# Altium schematic symbol library modulo_alimentador_schlib.SchLib: 12 symbols
Pins are listed as number, name and electrical type; pins without a type are passive.

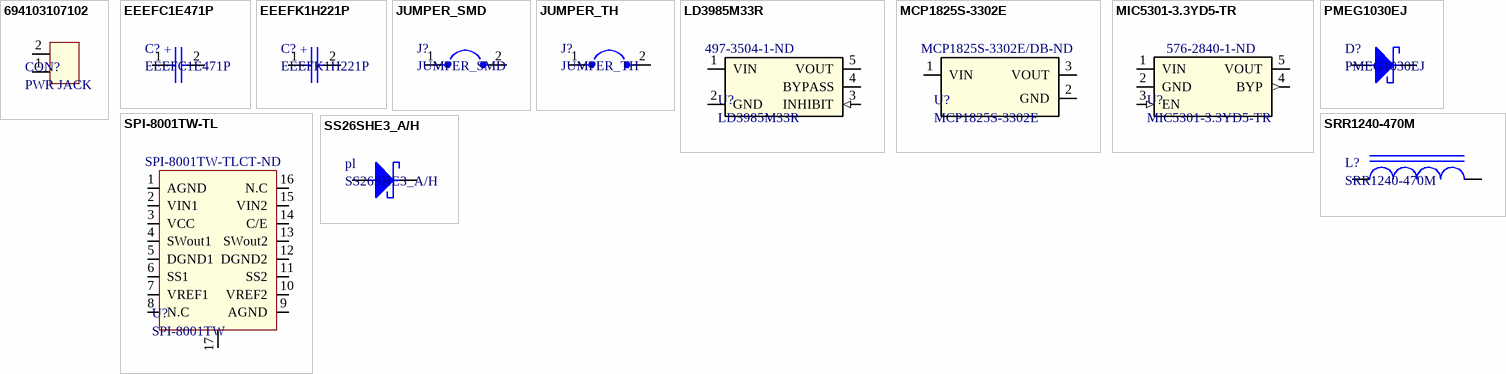
[diagram p0: symbols 694103107102 to SS26SHE3_A/H]

## 694103107102
designator CON?, comment PWR JACK
CONN PWR JACK DC RA SMD; Manufacturer: Wurth Electronics; Manufacturer Part Number: 694103107102; Connector Type: Jack,Power; Insulation Resistance: 100MR; Voltage Rating (DC): 18V; Gender: Male; Shielding: Unshielded; Current Rating: 5A; Supplier 1: Digi-Key; RoHS: Yes; Category: Connectors; Stock 1: 467; Pricing 1: 1=1,56000, 10=1,48500, 50=1,32600, 100=1,22000 (USD); Mount: Surface Mount; Color: Black; Contact Material: Copper Alloy; Contact Plating: Tin; Housing Material: Polyamide; Min Operating Temperature: -40°C; Max Operating Temperature: 85°C; Contact Gender: Female; Package Quantity: 500; Packaging: Tape and Reel; Termination: SMD/SMT; Voltage Rating: 18V; Flammability Rating: UL94 V-0; REACH SVHC: Unknown; ComponentLink1URL: http://www.mouser.com/ds/2/445/6941xx107102-469263.pdf?src-supplier=Mouser; ComponentLink1Description: http://www.mouser.com/ds/2/445/6941xx107102-469263.pdf?src-supplier=Mouser; ComponentLink2URL: http://www.farnell.com/cad/2130962.pdf?src-supplier=Element14; ComponentLink2Description: http://www.farnell.com/cad/2130962.pdf?src-supplier=Element14
footprint 694103107102
pins: 1 (power), 2 (power)

## EEEFC1E471P
designator C?
Capacitor 470uf electrolitico; Manufacturer: Panasonic; ESR (Equivalent Series Resistance): 150mR; Lead Diameter: 0.9mm; Leakage Current: 3uA; Life (Hours): 1000Hour; Material: Aluminium; Ripple Current: 670mA; Tolerance: 20%; Voltage: 25V; Capacitance: 470uF; Case/Package: Radial; Category: Aluminum Electrolytic Capacitors; Contact Plating: Tin; Diameter: 10mm; Height: 10.2mm; Height - Seated (Max): 0.402inch; Impedance: 150mR; Lead Free: Lead Free; Lead Pitch: 4.6mm; Length: 10.5mm; Manufacturer Part Number: EEEFC1E471P; Max Operating Temperature: 105°C; Min Operating Temperature: -40°C; Mount: Surface Mount,PCB; Package Quantity: 1; Packaging: Tape and Reel; Radiation Hardening: No; REACH SVHC: No SVHC; Ripple Current (AC): 670mA; Termination: SMD/SMT; Voltage Rating: 25V; Voltage Rating (DC): 25V; Width: 900um
footprint PCE4009CT
pins: 1, 2
text: +

## EEEFK1H221P
designator C?
Capacitor 220uf electrolitico; Manufacturer: Panasonic; Manufacturer Part Number: EEE-FK1H221P; Dielectric Material: Aluminium; ESR (Equivalent Series Resistance): 180mR; Leakage Current: 3uA; Life (Hours): 2000Hour; Polarity: Polar; Ripple Current: 670mA; Tolerance: 20%; Voltage: 50V; Width: 12mm; Capacitance: 220uF; Case/Package: Radial; Category: Aluminum Electrolytic Capacitors; Contact Plating: Tin; Diameter: 10mm; Height: 10.2mm; Height - Seated (Max): 0.413inch; Impedance: 180mR; Lead Free: Lead Free; Length: 10.2mm; Material: Aluminium; Max Operating Temperature: 105°C; Min Operating Temperature: -55°C; Mount: Surface Mount,PCB; Number of Pins: 2; Package Quantity: 500; Packaging: Tape and Reel; Radiation Hardening: No; REACH SVHC: No SVHC; Ripple Current (AC): 670mA; Termination: SMD/SMT; Voltage Rating: 50V; Voltage Rating (DC): 50V
footprint PCE4009CT
pins: 1, 2
text: +

## JUMPER_SMD
designator J?
JUMPER SMD Pitch  2.54mm; Manufacturer: Samtec; Manufacturer Part Number: TSM-102-01-L-SV-TR; Connector Type: Male Pin; Gender: Male; Max Current Rating: 7A; Max Voltage Rating (AC): 475V; Number of Contacts: 2; Category: Headers and Wire Housings; Color: Black; Contact Material: Bronze; Contact Mating Length: 0.23inch; Contact Plating: Gold; Depth: 2.54mm; Housing Color: Black; Housing Material: Polymer; Lead Free: Lead Free; Length: 5.08mm; Max Operating Temperature: 125°C; Min Operating Temperature: -55°C; Mount: Surface Mount; Number of Positions: 2; Number of Rows: 1; Orientation: Straight; Packaging: Tape and Reel; Pitch: 2.54mm; Radiation Hardening: No; REACH SVHC: No SVHC; Termination: Solder
footprint JUMPER_SMD
pins: 1, 2

## JUMPER_TH
designator J?
JUMPER Through Hole Pitch  2.54mm
footprint JUMPER_TH
pins: 1, 2

## LD3985M33R
designator U?  Supplier Part Number 1: 497-3504-1-ND
LDO Regulator Pos 3.3V 0.55A 5-Pin SOT-23 T/R; Vendor: STMicroelectronics; Built_By: EMA_UL_Team; Accuracy: 2%; Dropout Voltage: 60mV; Input Bias Current: 85uA; Max Input Voltage: 6V; Max Output Current: 150mA; Min Current Limit: 300mA; Min Input Voltage: 2.5V; Number of Outputs: 1; Output Type: Fixed; Polarity: Positive; Quiescent Current: 150uA; Manufacturer_Part_Number: LD3985M33R; Copyright: Copyright (C) 2018 Accelerated Designs. All rights reserved; RefDes: RefDes; Type: DEV; Value: Value; Width: 1.75mm; Case/Package: SOT-23; Category: Voltage Regulators - Linear; Height: 1.3mm; Lead Free: Lead Free; Length: 3mm; Manufacturer: STMicroelectronics; Manufacturer Part Number: LD3985M33R; Max Operating Temperature: 125°C; Min Operating Temperature: -40°C; Min Output Voltage: 3.3V; Mount: Surface Mount; Number of Pins: 5; Number of Regulators: 1; Output Current: 150mA; Output Voltage: 3.3V; Output Voltage Accuracy: 2%; Package Quantity: 1; Packaging: Tape and Reel; Radiation Hardening: No; Supplier 1: Digi-Key; RoHS: Yes; Stock 1: 4469; Pricing 1: 1=0,60000, 10=0,52800, 25=0,49600, 100=0,37600, 250=0,32000, 500=0,30400, 1000=0,23200 (USD); ComponentLink1URL: https://datasheet.ciiva.com/41440/001185181-da-01-en-ic-reg-ldo-3-3v-ld3985m33r-sot-23-5-stm-41440289.pdf?src-supplier=Conrad; ComponentLink1Description: https://datasheet.ciiva.com/41440/001185181-da-01-en-ic-reg-ldo-3-3v-ld3985m33r-sot-23-5-stm-41440289.pdf?src-supplier=Conrad; ComponentLink2URL: https://datasheet.ciiva.com/26905/ld3985m33r-26905032.pdf?src-supplier=IIIC; ComponentLink2Description: https://datasheet.ciiva.com/26905/ld3985m33r-26905032.pdf?src-supplier=IIIC; ComponentLink3URL: https://datasheet.ciiva.com/2042/cd00003395-2042198.pdf?src-supplier=Digi-Key; ComponentLink3Description: https://datasheet.ciiva.com/2042/cd00003395-2042198.pdf?src-supplier=Digi-Key; ComponentLink4URL: https://datasheet.ciiva.com/2042/cd00003395-2042200.pdf?src-supplier=Digi-Key; ComponentLink4Description: https://datasheet.ciiva.com/2042/cd00003395-2042200.pdf?src-supplier=Digi-Key; ComponentLink5URL: https://datasheet.ciiva.com/2042/cd00003395-2042199.pdf?src-supplier=Digi-Key; ComponentLink5Description: https://datasheet.ciiva.com/2042/cd00003395-2042199.pdf?src-supplier=Digi-Key; ComponentLink6URL: https://datasheet.ciiva.com/16591/cd00003395-16591967.pdf?src-supplier=Avnet+Europe; ComponentLink6Description: https://datasheet.ciiva.com/16591/cd00003395-16591967.pdf?src-supplier=Avnet+Europe
footprint LD3985M33R
pins: 1 VIN (power), 2 GND (power), 3 INHIBIT (in), 4 BYPASS, 5 VOUT (power)

## MCP1825S-3302E
designator U?  Supplier Part Number 1: MCP1825S-3302E/DB-ND
MCP1825 Series 500 mA Low Quiescent Current LDO Regulator - SOT-223-3; Manufacturer: Microchip; Manufacturer Part Number: MCP1825S-3302E/DB; Category: Voltage Regulators - Linear; Supplier 1: Digi-Key; RoHS: Yes; Stock 1: 2086; Pricing 1: 1=0,51000, 25=0,43000, 100=0,39000 (USD); ComponentLink1URL: https://datasheet.ciiva.com/2040/22056b-2040962.pdf?src-supplier=Digi-Key; ComponentLink1Description: https://datasheet.ciiva.com/2040/22056b-2040962.pdf?src-supplier=Digi-Key; ComponentLink2URL: https://datasheet.ciiva.com/16369/filehandler-aspxddocname-en531698-16369574.pdf?src-supplier=Future+Electronics; ComponentLink2Description: https://datasheet.ciiva.com/16369/filehandler-aspxddocname-en531698-16369574.pdf?src-supplier=Future+Electronics; ComponentLink3URL: https://datasheet.ciiva.com/3224/22056b-3224139.pdf?src-supplier=Avnet; ComponentLink3Description: https://datasheet.ciiva.com/3224/22056b-3224139.pdf?src-supplier=Avnet; ComponentLink4URL: https://datasheet.ciiva.com/8041/514217-8041499.pdf?src-supplier=Element14; ComponentLink4Description: https://datasheet.ciiva.com/8041/514217-8041499.pdf?src-supplier=Element14
footprint MCP1825S-3302E
pins: 1 VIN (power), 2 GND (power), 3 VOUT (power)

## MIC5301-3.3YD5-TR
designator U?  Supplier Part Number 1: 576-2840-1-ND
LDO VOLT REG, 0.15A, 3.3V, TSOT-23-5; Input Voltage Min:2.3V; Input Voltage Max:5.5V; Output Voltage Nom.:3.3V; Output Current:150mA; Dropout Voltage Vdo:40mV; LDO Regulator Case Style:TSOT-23; No. of Pins:5; Operating Temperature Min:-40°C; Operating Temperature Max:125°C; Packaging:Cut Tape; MSL:MSL 1 - Unlimited; SVHC:No SVHC (15-Jun-2015); Manufacturer: Microchip; Category: Voltage Regulators - Linear; Manufacturer Part Number: MIC5301-3.3YD5-TR; Supplier 1: Digi-Key; RoHS: Yes; Stock 1: 2373; Pricing 1: 1=0,59000, 25=0,49000, 100=0,45000 (USD); ComponentLink1URL: https://datasheet.ciiva.com/2049/mic5301-2049830.pdf?src-supplier=Digi-Key; ComponentLink1Description: https://datasheet.ciiva.com/2049/mic5301-2049830.pdf?src-supplier=Digi-Key; ComponentLink2URL: https://datasheet.ciiva.com/46425/1670788-46425623.pdf?src-supplier=Element14; ComponentLink2Description: https://datasheet.ciiva.com/46425/1670788-46425623.pdf?src-supplier=Element14
footprint MIC5301-3.3YD5-TR
pins: 1 VIN (power), 2 GND (power), 3 EN (in), 4 BYP (out), 5 VOUT (power)

## PMEG1030EJ
designator D?
DIODO SCHOTTKY; Manufacturer: Nexperia; Manufacturer Part Number: PMEG1030EJ,115
footprint PMEG1030EJ
pins: 1 A, 2 K

## SPI-8001TW-TL
designator U?, comment SPI-8001TW  Supplier Part Number 1: SPI-8001TW-TLCT-ND
IC REG BUCK ADJ 1.5A DL 16-HSOP; Manufacturer: Allegro MicroSystems Sanken; Manufacturer Part Number: SPI-8001TW-TL; Max Input Voltage: 20V; Max Output Voltage: 16V; Min Input Voltage: 4V; Min Output Voltage: 1V; Number of Outputs: 2; Output Configuration: Positive; Output Type: Adjustable; Switching Frequency: 250kHz; Synchronous Rectifier: No; Case/Package: SOIC; Category: Voltage Regulators - Switching; Max Operating Temperature: 135°C; Min Operating Temperature: -30°C; Mount: Surface Mount; Number of Pins: 16; Output Current: 1.5A; Package Quantity: 1400; Packaging: Tape and Reel; Supplier 1: Digi-Key; RoHS: Yes; Stock 1: 1392; Pricing 1: 1=3,10000, 10=2,78500, 25=2,63240, 100=2,16450, 250=1,94220, 500=1,87200 (USD); ComponentLink1URL: https://datasheet.ciiva.com/29734/spi-8001tw-ds-en-29734001.pdf?src-supplier=Digi-Key; ComponentLink1Description: https://datasheet.ciiva.com/29734/spi-8001tw-ds-en-29734001.pdf?src-supplier=Digi-Key; ComponentLink2URL: https://datasheet.ciiva.com/29733/h1-o03eh0-29733998.pdf?src-supplier=Digi-Key; ComponentLink2Description: https://datasheet.ciiva.com/29733/h1-o03eh0-29733998.pdf?src-supplier=Digi-Key; ComponentLink3URL: https://datasheet.ciiva.com/29733/h1-o03eh0-29733994.pdf?src-supplier=Digi-Key; ComponentLink3Description: https://datasheet.ciiva.com/29733/h1-o03eh0-29733994.pdf?src-supplier=Digi-Key
footprint SOP127P1050X275_HS-17N (SOP, 16-Leads, Body 12,20x7,50mm, Pitch 1,27mm, Thermal Pad 11,00x4,50mm, IPC Medium Density)
pins: 1 AGND (power), 2 VIN1 (power), 3 VCC (power), 4 SWout1 (out), 5 DGND1 (power), 6 SS1 (in), 7 VREF1 (power), 8 N.C, 9 AGND (power), 10 VREF2 (power), 11 SS2 (in), 12 DGND2 (power), 13 SWout2 (out), 14 C/E (in), 15 VIN2 (power), 16 N.C, 17 Thermal (power)

## SRR1240-470M
designator L?
Inductor fijo con nucleo.; Manufacturer: Bourns; Core Material: Ferrite; Current Rating: 2A; DC Resistance (DCR): 135mR; Frequency: 13MHz; Inductance: 47uH; Inductance Tolerance: 20%; Material: Steel; Q Factor: 19; Saturation Current: 1.8A; Shielding: Shielded; Test Frequency: 100kHz; Width: 12.5mm; Case/Package: Nonstandard; Category: Fixed Inductors; Composition: Wirewound; DC Current: 2A; Depth: 12.8mm; Height: 4mm; Height - Seated (Max): 0.177inch; Length: 12.5mm; Manufacturer Part Number: SRR1240-470M; Max DC Current: 2A; Max Operating Temperature: 125°C; Military Standard: Not; Min Operating Temperature: -40°C; Mount: Surface Mount; Package Quantity: 800; Packaging: Cut Tape; Radiation Hardening: No; REACH SVHC: No SVHC; Resistance: 135MR; RMS Current (Irms): 2A; Self Resonant Frequency: 13MHz; Termination: SMD/SMT; Tolerance: 20%
footprint SRR1240-470M
pins: 1, 2

## SS26SHE3_A/H
designator pl
Diodo schottky 60V 2A; Manufacturer: Vishay; Manufacturer Part Number: SS26SHE3"A/H; Element Configuration: Single; Forward Voltage: 750mV; Max Forward Surge Current (Ifsm): 40A; Peak Reverse Current: 10mA; Average Rectified Current: 2A; Case/Package: SMA; Category: Rectifier Diodes; Forward Current: 2A; Height: 2.29mm; Lead Free: Lead Free; Length: 4.5mm; Max Operating Temperature: 150°C; Max Repetitive Reverse Voltage (Vrrm): 60V; Max Reverse Voltage (DC): 60V; Min Operating Temperature: -55°C; Mount: Surface Mount; Number of Pins: 2; Package Quantity: 1800; Packaging: Tape and Reel; Peak Non-Repetitive Surge Current: 40A; Radiation Hardening: No; Reverse Voltage (DC): 60V; Termination: SMD/SMT; Weight: 0.001199oz; Width: 2.79mm
footprint SS26SHE3_A/H
pins: 1 A, 2 K